# Altium schematic symbol library BlowFuse.SchLib: 3 symbols
Pins are listed as number, name and electrical type; pins without a type are passive.

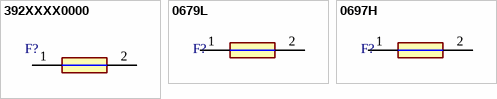
[diagram p0: symbols 392XXXX0000 to 0697H]

## 392XXXX0000
designator F?
Fuse Board Mount (Cartridge Style Excluded) Through Hole Radial, Box; Manufacturer 1: LittleFuse; Manufacturer Part Number 1: *; Value: *; Supplier 1: *; Supplier Part Number 1: *
footprint 392XXXX0000 (LittleFuse 392 Series)
pins: 1, 2

## 0679L
designator F?
FUSE BRD MNT 2SMD; Manufacturer 1: Bel Fuse Inc.; Manufacturer Part Number 1: *; Value: *
footprint 0679L (FUSE BRD MNT 2SMD)
pins: 1, 2

## 0697H
designator F?
Fuse Board Mount (Cartridge Style Excluded) Through Hole Radial, Box; Manufacturer 1: Bel Fuse Inc.; Manufacturer Part Number 1: *; Value: *
footprint 0697H9200-02 (20 A 350 V AC 72 V DC Fuse Board Mount (Cartridge Style Excluded) Through Hole Radial, Box)
pins: 1, 2